# Altium footprint library C_SMD_SIZE_B.PcbLib: 1 footprints
Each footprint in its own frame and in the unit in brackets; x right, y up, seen from the top. Pads: shape width x height; smd on the part's side, far side on the other; paste and mask are expansions set on the pad; w line width, h text height; cw(c..) or ccw(c..) is an arc to the next point about the centre after c.
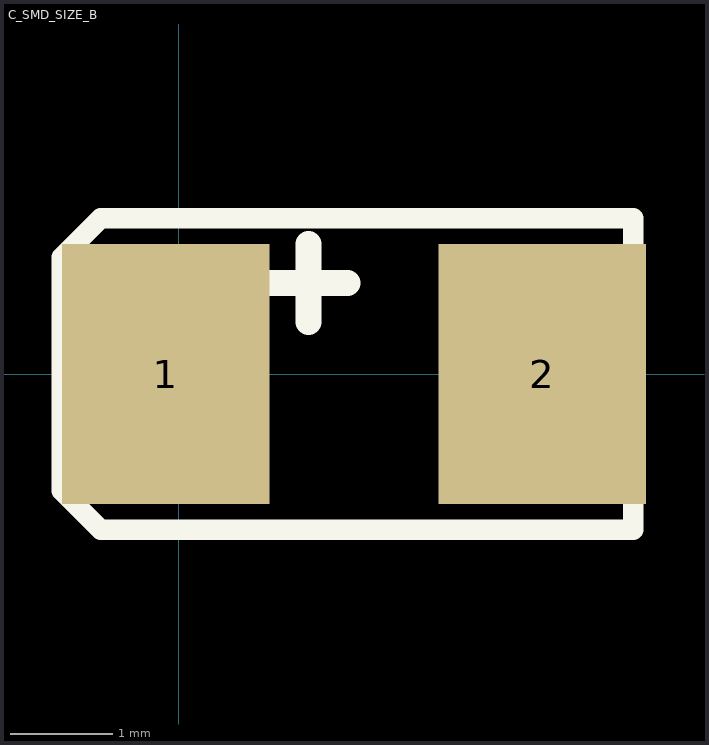
[diagram p0: the footprint, top view; thin cyan lines are the x and y axes]

## C_SMD_SIZE_B [mil]
pads (2):
  rect 80x100 smd: 1(-5,0) 2(140,0)
Top Overlay:
  lines w7.87: -45,-45 -30,-60 175,-60 175,60 -30,60 -45,45 -45,-45
  lines w10: 35,35 65,35 ; 50,20 50,50
3D body: height 75, standoff 0, extent 0,-55 140,55